# Altium schematic symbol library TPS2662X.SchLib: 1 symbol
Pins are listed as number, name and electrical type; pins without a type are passive.

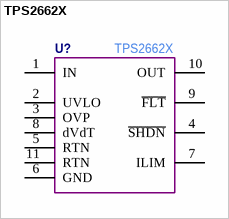
[diagram p0: symbol TPS2662X]

## TPS2662X
designator U?
Manufacturer Part Number: TPS2662X
pins: 1 IN, 2 UVLO, 3 OVP, 4 ~{SHDN}, 5 RTN, 6 GND, 7 ILIM, 8 dVdT, 9 ~{FLT}, 10 OUT, 11 RTN